# Altium footprint library ESP-S3-Wroom1.PcbLib: 1 footprints
Each footprint in its own frame and in the unit in brackets; x right, y up, seen from the top. Pads: shape width x height; smd on the part's side, far side on the other; paste and mask are expansions set on the pad; w line width, h text height; cw(c..) or ccw(c..) is an arc to the next point about the centre after c.
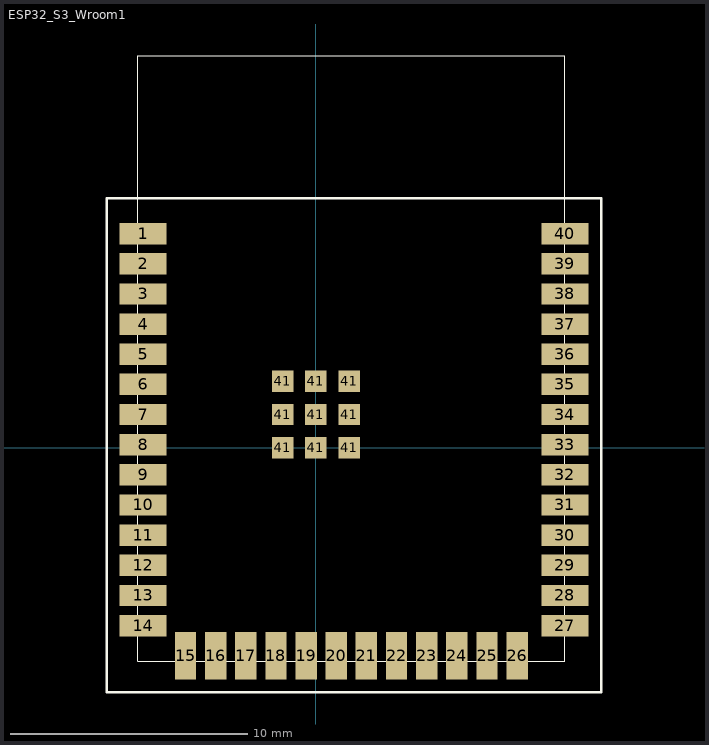
[diagram p0: the footprint, top view; thin cyan lines are the x and y axes]

## ESP32_S3_Wroom1 [mm]
pads (49):
  rect 2x0.9 smd: 1(-7.28,9.02) 2(-7.28,7.75) 3(-7.28,6.48) 4(-7.28,5.21) 5(-7.28,3.94) 6(-7.28,2.67) 7(-7.28,1.4) 8(-7.28,0.13) 9(-7.28,-1.14) 10(-7.28,-2.41) 11(-7.28,-3.68) 12(-7.28,-4.95) 13(-7.28,-6.22) 14(-7.28,-7.49) 27(10.495,-7.49) 28(10.495,-6.22) 29(10.495,-4.95) 30(10.495,-3.68) 31(10.495,-2.41) 32(10.495,-1.14) 33(10.495,0.13) 34(10.495,1.4) 35(10.495,2.67) 36(10.495,3.94) 37(10.495,5.21) 38(10.495,6.48) 39(10.495,7.75) 40(10.495,9.02)
  rect 0.9x2 smd: 15(-5.49,-8.765) 16(-4.22,-8.765) 17(-2.95,-8.765) 18(-1.68,-8.765) 19(-0.41,-8.765) 20(0.86,-8.765) 21(2.13,-8.765) 22(3.4,-8.765) 23(4.67,-8.765) 24(5.94,-8.765) 25(7.21,-8.765) 26(8.48,-8.765)
  rect 0.9x0.9 smd: 41(-1.4,0) 41(-1.4,1.4) 41(-1.4,2.8) 41(0,0) 41(0,1.4) 41(0,2.8) 41(1.4,0) 41(1.4,1.4) 41(1.4,2.8)
Top Overlay:
  lines w0.01: -7.51,13.91 -7.505,13.905 ; -7.505,-8.99 -7.505,-8.99 ; -7.505,-8.99 -7.505,16.51 ; -7.505,-8.99 10.495,-8.99 10.495,16.51 -7.505,16.51 ; -7.505,16.51 -7.505,16.51 ; 10.495,15.995 10.495,15.995
  lines w0.1: -8.805,-10.295 -8.805,10.51 12.02,10.51 12.02,-10.295 -8.805,-10.295
3D body "ESP32-S3-WROOM-1-N16R8.STEP": height 3.26, standoff 0.01, extent -7.518,-8.953 10.482,16.547